# Altium schematic symbol library SCHOTTKY_2ANODE_1CATHODE.SchLib: 1 symbol
Pins are listed as number, name and electrical type; pins without a type are passive.

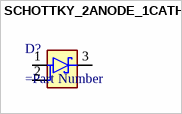
[diagram p0: symbol SCHOTTKY_2ANODE_1CATHODE]

## SCHOTTKY_2ANODE_1CATHODE
designator D?
=Description
pins: 1, 2, 3